# Altium schematic symbol library Lib.SchLib: 1 symbol
Pins are listed as number, name and electrical type; pins without a type are passive.

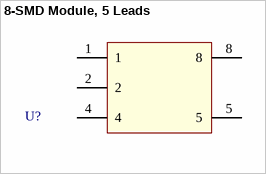
[diagram p0: symbol 8-SMD Module, 5 Leads]

## 8-SMD Module, 5 Leads
designator U?
8-SMD Module, 5 Leads ICs; ComponentLink1Description: Datasheet; ComponentLink1URL: https://recom-power.com/pdf/Econoline/R1S_R1D.pdf; Supplier 1: Digikey; Created By: Arda Kara
footprint 8-SMD Module, 5 Leads (Footprint for 8-SMD Module, 5 Leads ICs)
pins: 1, 2, 4, 5, 8